# Altium schematic symbol library TLV237X.SchLib: 2 symbols
Pins are listed as number, name and electrical type; pins without a type are passive.

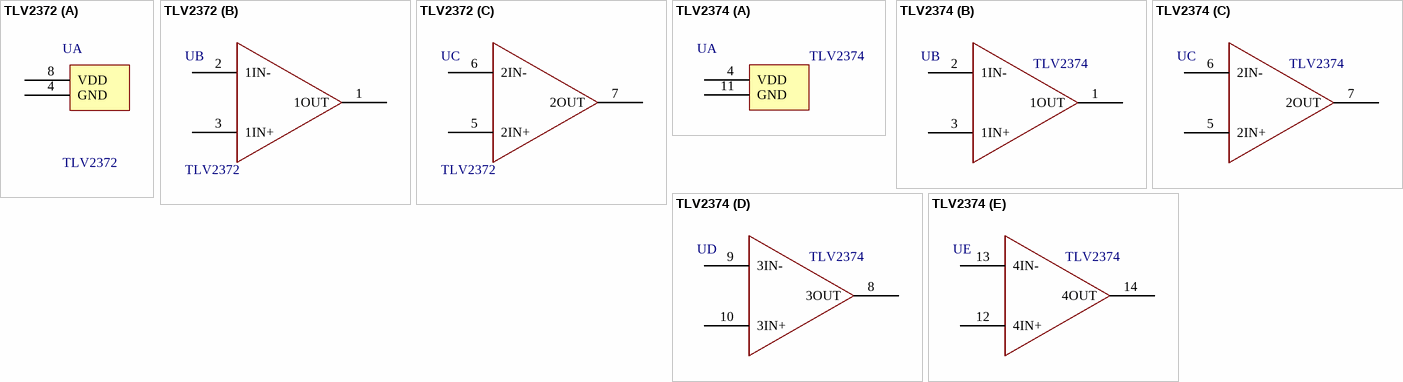
[diagram p0: symbols TLV2372 to TLV2374]

## TLV2372
designator U  value TLV2372  (hidden comment: *)
Manufacturer: Texas Instruments
footprint SO8
part A pins: 4 GND, 8 VDD
part B pins: 1 1OUT , 2 1IN-, 3 1IN+
part C pins: 5 2IN+, 6 2IN-, 7 2OUT 

## TLV2374
designator U  value TLV2374  (hidden comment: *)
Manufacturer Code: TLV2374ID; Manufacturer: Texas Instruments; Farnell Code: 8455040; Unit Price: 1,07 €
footprint SO14 (Footprint not found)
part A pins: 4 VDD, 11 GND
part B pins: 1 1OUT , 2 1IN-, 3 1IN+
part C pins: 5 2IN+, 6 2IN-, 7 2OUT 
part D pins: 8 3OUT , 9 3IN-, 10 3IN+
part E pins: 12 4IN+, 13 4IN-, 14 4OUT 